# Altium footprint library Resistor Networks, Arrays.PcbLib: 3 footprints
Each footprint in its own frame and in the unit in brackets; x right, y up, seen from the top. Pads: shape width x height; smd on the part's side, far side on the other; paste and mask are expansions set on the pad; w line width, h text height; cw(c..) or ccw(c..) is an arc to the next point about the centre after c.
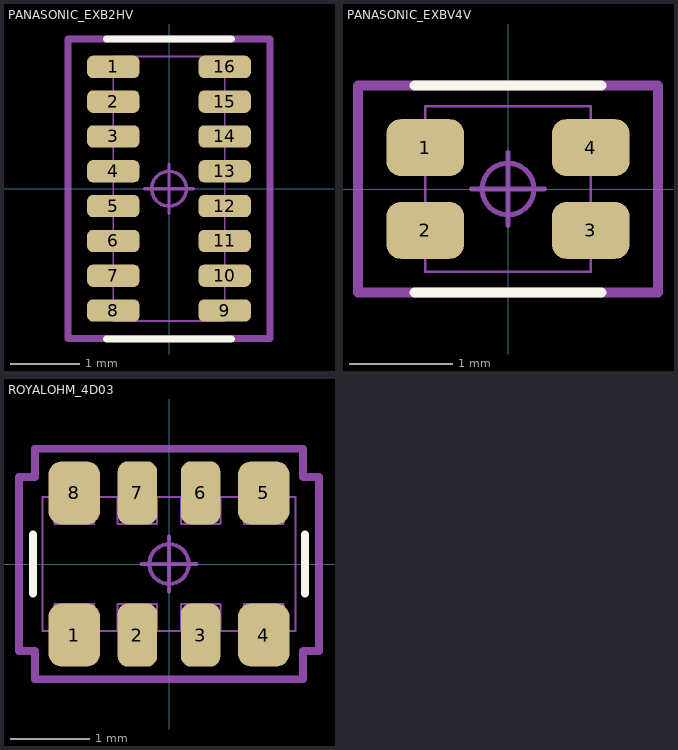
[diagram p0: the footprints below, top view; thin cyan lines are the x and y axes]

## PANASONIC_EXB2HV [mm]
pads (16):
  rrect50% 0.75x0.32 smd mask+0.04: 1(-0.8,1.75) 2(-0.8,1.25) 3(-0.8,0.75) 4(-0.8,0.25) 5(-0.8,-0.25) 6(-0.8,-0.75) 7(-0.8,-1.25) 8(-0.8,-1.75) 9(0.8,-1.75) 10(0.8,-1.25) 11(0.8,-0.75) 12(0.8,-0.25) 13(0.8,0.25) 14(0.8,0.75) 15(0.8,1.25) 16(0.8,1.75)
Top Overlay:
  lines w0.1: -0.9,-2.159 0.9,-2.159 ; -0.9,2.15 0.9,2.15
Mechanical 13:
  lines w0.025: -0.8,-1.9 0.8,-1.9 0.8,1.9 -0.8,1.9 -0.8,-1.9
Mechanical 15:
  circle w0.05: c0,0 r0.25
  lines w0.05: -0.35,0 0.35,0 ; 0,-0.35 0,0.35
  lines w0.1: -1.45,-2.15 -1.45,2.15 1.45,2.15 1.45,-2.15 -1.45,-2.15
3D body "EXB-2HV330JV.STEP": height 0.55, standoff 0, extent -0.8,-1.9 0.8,1.9

## PANASONIC_EXBV4V [mm]
pads (4):
  rrect50% 0.75x0.55 smd mask+0.04: 1(-0.8,0.4) 2(-0.8,-0.4) 3(0.8,-0.4) 4(0.8,0.4)
Top Overlay:
  lines w0.1: -0.9,-1 0.9,-1 ; -0.9,1 0.9,1
Mechanical 13:
  lines w0.025: -0.8,-0.8 0.8,-0.8 0.8,0.8 -0.8,0.8 -0.8,-0.8
Mechanical 15:
  circle w0.05: c0,0 r0.25
  lines w0.05: -0.35,0 0.35,0 ; 0,-0.35 0,0.35
  lines w0.1: -1.45,-1 -1.45,1 1.45,1 1.45,-1 -1.45,-1
3D body "User Library-EXBV4V.step": height 0.57, standoff 0.01, extent -0.8,-0.8 0.8,0.8

## ROYALOHM_4D03 [mm]
height 0.6
pads (8):
  rrect51% 0.65x0.8 smd mask+0.04: 1(-1.2,-0.9) 4(1.2,-0.9) 5(1.2,0.9) 8(-1.2,0.9)
  rrect51% 0.5x0.8 smd mask+0.04: 2(-0.4,-0.9) 3(0.4,-0.9) 6(0.4,0.9) 7(-0.4,0.9)
Top Overlay:
  lines w0.1: -1.725,-0.375 -1.725,0.375 ; 1.725,-0.375 1.725,0.375
Mechanical 13:
  lines w0.025: -1.45,-0.85 -1.45,-0.508 -0.95,-0.508 -0.95,-0.85 ; -1.45,0.85 -1.45,0.508 -0.95,0.508 -0.95,0.85 ; -0.65,-0.85 -0.65,-0.508 -0.15,-0.508 -0.15,-0.85 ; -0.65,0.85 -0.65,0.508 -0.15,0.508 -0.15,0.85 ; 0.15,-0.85 0.15,-0.508 0.65,-0.508 0.65,-0.85 ; 0.15,0.85 0.15,0.508 0.65,0.508 0.65,0.85 ; 0.95,-0.85 0.95,-0.508 1.45,-0.508 1.45,-0.85 ; 0.95,0.85 0.95,0.508 1.45,0.508 1.45,0.85 ; -1.6,-0.85 -1.6,0.85 1.6,0.85 1.6,-0.85 -1.6,-0.85
Mechanical 15:
  circle w0.05: c0,0 r0.25
  lines w0.05: -0.35,0 0.35,0 ; 0,-0.35 0,0.35
  lines w0.1: -1.9,-1.1 -1.9,1.1 -1.695,1.1 -1.695,1.46 1.695,1.46 1.695,1.1 1.9,1.1 1.9,-1.1 1.695,-1.1 1.695,-1.46 -1.695,-1.46 -1.695,-1.1 -1.9,-1.1
3D body "RESCAXE80P320X160X60-8.STEP": height 0.6, standoff 0, extent -1.6,-0.85 1.6,0.85